# Altium schematic symbol library kmilo17pet-LT_OpAmp_LT1000.SchLib: 2280 symbols (part 61 of 79)
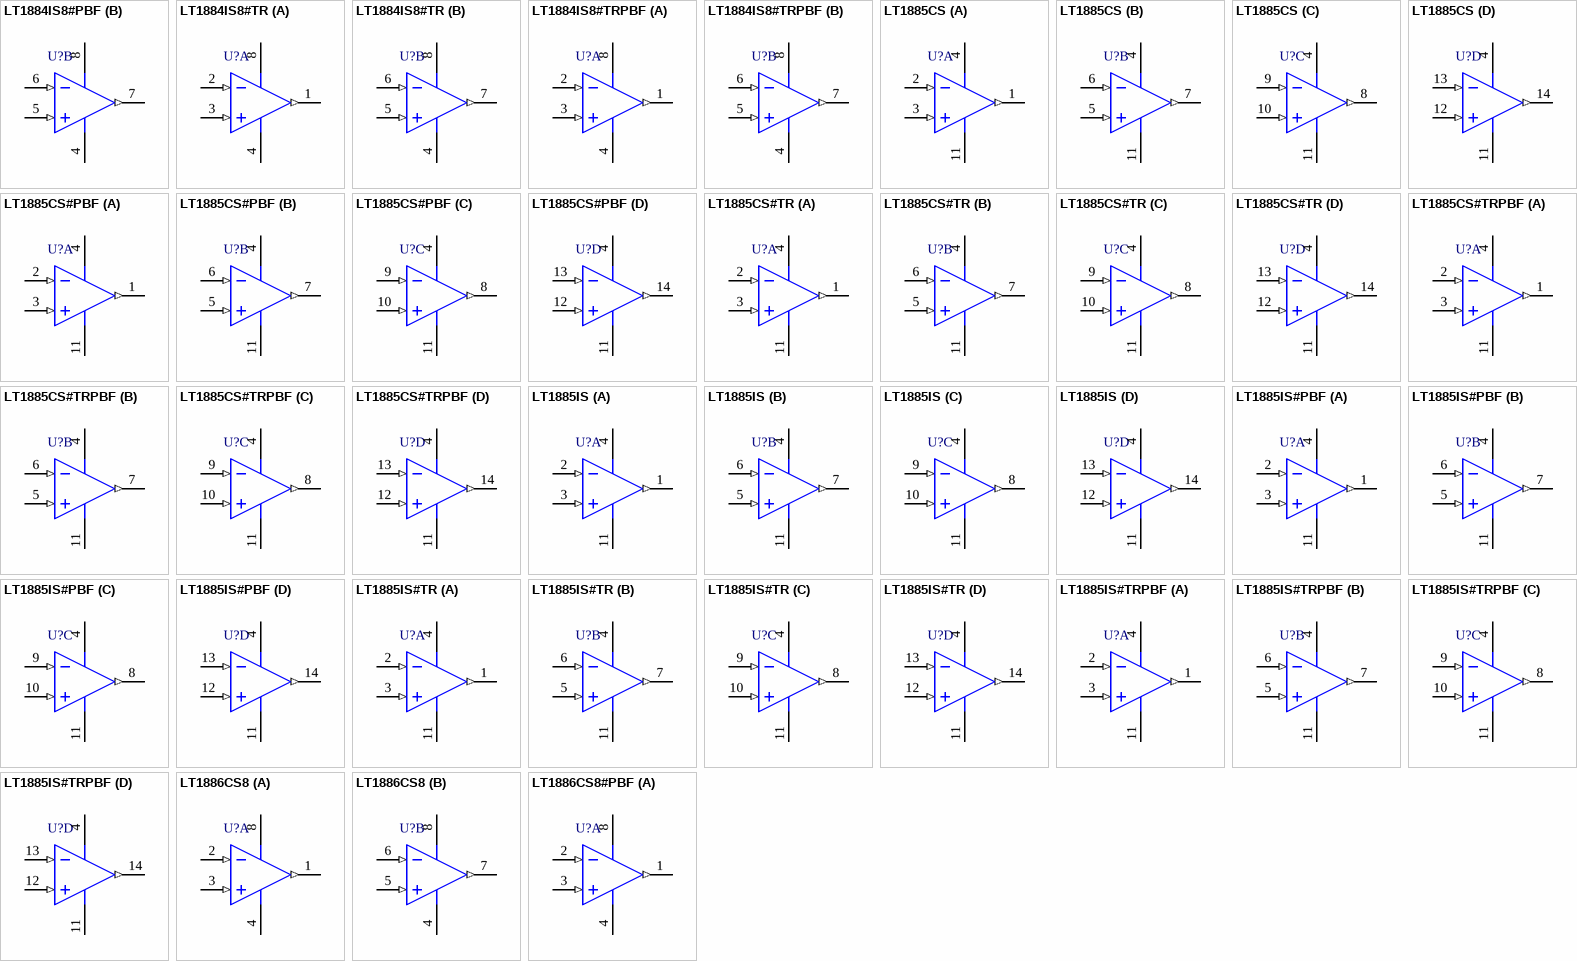
[diagram p165: symbols LT1884IS8#PBF to LT1886CS8#PBF]

## LT1884IS8#TR
designator U?
Dual Channel, Picoamp Input Current, Precision Operational Amplifier, RRO, 2 MHz Typical GBW, 0.9 V/us Typical SR, 2.4 to 40 V, 8-Pin SOIC (S8-8), Industrial, Reel; Linear Technology Part Number: LT1884; Manufacturer: Linear Technology; PartNumber: LT1884IS8#TR; Channels (#): 2; Is (mA) Typical: 0.65; SR (V/us) Typical: 0.9; Vos (mV) Guaranteed: 0.05; Vos (mV) Typical: 0.025; Vs Max (V): 40; Vs Min (V): 2.4; PackageVersion: Rev G; PackageReference: LT-S8-8; PackageDescription: 8-Pin Plastic Small Outline, Body 4.9 x 3.9 mm, Pitch 1.27 mm; Supplier 1: Digi-Key; Supplier Part Number 1: LT1884IS8#TR-ND; GBW (MHz) Typical: 2; Packing: Reel; Type: VFB; Mounting Technology: Surface Mount; ComponentLink1Description: Manufacturer URL; ComponentLink1URL: http://www.linear.com/; ComponentLink2Description: Datasheet; ComponentLink2URL: http://cds.linear.com/docs/en/datasheet/1884fs.pdf; ComponentLink3Description: Package Specification; ComponentLink3URL: http://cds.linear.com/docs/en/packaging/05081610_G_SO8.pdf
footprint LT-S8-8_N (SOIC, 8-Leads, Body 4.9x3.9mm, Pitch 1.27mm, IPC Medium Density)
footprint LT-S8-8_L (SOIC, 8-Leads, Body 4.9x3.9mm, Pitch 1.27mm, IPC High Density)
footprint LT-S8-8_M (SOIC, 8-Leads, Body 4.9x3.9mm, Pitch 1.27mm, IPC Low Density)
pins on every part: 4 V- (power), 8 V+ (power)
part A pins: 1 OUT A (out), 2 -IN A (in), 3 +IN A (in)
part B pins: 5 +IN B (in), 6 -IN B (in), 7 OUT B (out)

## LT1884IS8#TRPBF
designator U?
Dual Channel, Picoamp Input Current, Precision Operational Amplifier, RRO, 2 MHz Typical GBW, 0.9 V/us Typical SR, 2.4 to 40 V, 8-Pin SOIC (S8-8), Industrial, Pb-Free, Reel; Linear Technology Part Number: LT1884; Manufacturer: Linear Technology; PartNumber: LT1884IS8#TRPBF; Channels (#): 2; Is (mA) Typical: 0.65; SR (V/us) Typical: 0.9; Vos (mV) Guaranteed: 0.05; Vos (mV) Typical: 0.025; Vs Max (V): 40; Vs Min (V): 2.4; PackageVersion: Rev G; PackageReference: LT-S8-8; PackageDescription: 8-Pin Plastic Small Outline, Body 4.9 x 3.9 mm, Pitch 1.27 mm; Supplier 1: Digi-Key; Supplier Part Number 1: LT1884IS8#TRPBF-ND; GBW (MHz) Typical: 2; Packing: Reel; RoHS: Pb-Free; Type: VFB; Mounting Technology: Surface Mount; ComponentLink1Description: Manufacturer URL; ComponentLink1URL: http://www.linear.com/; ComponentLink2Description: Datasheet; ComponentLink2URL: http://cds.linear.com/docs/en/datasheet/1884fs.pdf; ComponentLink3Description: Package Specification; ComponentLink3URL: http://cds.linear.com/docs/en/packaging/05081610_G_SO8.pdf
footprint LT-S8-8_N (SOIC, 8-Leads, Body 4.9x3.9mm, Pitch 1.27mm, IPC Medium Density)
footprint LT-S8-8_L (SOIC, 8-Leads, Body 4.9x3.9mm, Pitch 1.27mm, IPC High Density)
footprint LT-S8-8_M (SOIC, 8-Leads, Body 4.9x3.9mm, Pitch 1.27mm, IPC Low Density)
pins on every part: 4 V- (power), 8 V+ (power)
part A pins: 1 OUT A (out), 2 -IN A (in), 3 +IN A (in)
part B pins: 5 +IN B (in), 6 -IN B (in), 7 OUT B (out)

## LT1885CS
designator U?
Quad Channel, Picoamp Input Current, Precision Operational Amplifier, 2 MHz Typical GBW, 0.9 V/us Typical SR, 2.4 to 40 V, 14-Pin SOIC (S-14), Commercial; Linear Technology Part Number: LT1885; Manufacturer: Linear Technology; PartNumber: LT1885CS; Channels (#): 4; GBW (MHz) Typical: 2; Is (mA) Typical: 0.65; SR (V/us) Typical: 0.9; Vos (mV) Guaranteed: 0.08; Vos (mV) Typical: 0.03; Vs Max (V): 40; Vs Min (V): 2.4; PackageVersion: Rev G; PackageReference: LT-S-14; PackageDescription: 14-Lead Plastic Small Outline, Body 8.65 x 3.90 mm, Pitch 1.27 mm; Supplier 1: Digi-Key; Supplier Part Number 1: LT1885CS-ND; Type: VFB; Mounting Technology: Surface Mount; ComponentLink1Description: Manufacturer URL; ComponentLink1URL: http://www.linear.com/; ComponentLink2Description: Datasheet; ComponentLink2URL: http://cds.linear.com/docs/en/datasheet/1884fs.pdf; ComponentLink3Description: Package Specification; ComponentLink3URL: http://cds.linear.com/docs/en/packaging/05081610_G_S14.pdf
footprint LT-S-14_N (SOIC, 14-Leads, Body 8.65x3.90mm, Pitch 1.27mm, IPC Medium Density)
footprint LT-S-14_L (SOIC, 14-Leads, Body 8.65x3.90mm, Pitch 1.27mm, IPC High Density)
footprint LT-S-14_M (SOIC, 14-Leads, Body 8.65x3.90mm, Pitch 1.27mm, IPC Low Density)
pins on every part: 4 V+ (power), 11 V- (power)
part A pins: 1 OUT A (out), 2 -IN A (in), 3 +IN A (in)
part B pins: 5 +IN B (in), 6 -IN B (in), 7 OUT B (out)
part C pins: 8 OUT C (out), 9 -IN C (in), 10 +IN C (in)
part D pins: 12 +IN D (in), 13 -IN D (in), 14 OUT D (out)

## LT1885CS#PBF
designator U?
Quad Channel, Picoamp Input Current, Precision Operational Amplifier, 2 MHz Typical GBW, 0.9 V/us Typical SR, 2.4 to 40 V, 14-Pin SOIC (S-14), Commercial, Pb-Free; Linear Technology Part Number: LT1885; Manufacturer: Linear Technology; PartNumber: LT1885CS#PBF; Channels (#): 4; GBW (MHz) Typical: 2; Is (mA) Typical: 0.65; SR (V/us) Typical: 0.9; Vos (mV) Guaranteed: 0.08; Vos (mV) Typical: 0.03; Vs Max (V): 40; Vs Min (V): 2.4; PackageVersion: Rev G; PackageReference: LT-S-14; PackageDescription: 14-Lead Plastic Small Outline, Body 8.65 x 3.90 mm, Pitch 1.27 mm; Supplier 1: Digi-Key; Supplier Part Number 1: LT1885CS#PBF-ND; Supplier 2: Farnell; Supplier Part Number 2: 1330727; Supplier 3: Newark; Supplier Part Number 3: 57M7124; RoHS: Pb-Free; Type: VFB; Mounting Technology: Surface Mount; ComponentLink1Description: Manufacturer URL; ComponentLink1URL: http://www.linear.com/; ComponentLink2Description: Datasheet; ComponentLink2URL: http://cds.linear.com/docs/en/datasheet/1884fs.pdf; ComponentLink3Description: Package Specification; ComponentLink3URL: http://cds.linear.com/docs/en/packaging/05081610_G_S14.pdf
footprint LT-S-14_N (SOIC, 14-Leads, Body 8.65x3.90mm, Pitch 1.27mm, IPC Medium Density)
footprint LT-S-14_L (SOIC, 14-Leads, Body 8.65x3.90mm, Pitch 1.27mm, IPC High Density)
footprint LT-S-14_M (SOIC, 14-Leads, Body 8.65x3.90mm, Pitch 1.27mm, IPC Low Density)
pins on every part: 4 V+ (power), 11 V- (power)
part A pins: 1 OUT A (out), 2 -IN A (in), 3 +IN A (in)
part B pins: 5 +IN B (in), 6 -IN B (in), 7 OUT B (out)
part C pins: 8 OUT C (out), 9 -IN C (in), 10 +IN C (in)
part D pins: 12 +IN D (in), 13 -IN D (in), 14 OUT D (out)

## LT1885CS#TR
designator U?
Quad Channel, Picoamp Input Current, Precision Operational Amplifier, 2 MHz Typical GBW, 0.9 V/us Typical SR, 2.4 to 40 V, 14-Pin SOIC (S-14), Commercial, Reel; Linear Technology Part Number: LT1885; Manufacturer: Linear Technology; PartNumber: LT1885CS#TR; Channels (#): 4; GBW (MHz) Typical: 2; Is (mA) Typical: 0.65; SR (V/us) Typical: 0.9; Vos (mV) Guaranteed: 0.08; Vos (mV) Typical: 0.03; Vs Max (V): 40; Vs Min (V): 2.4; PackageVersion: Rev G; PackageReference: LT-S-14; PackageDescription: 14-Lead Plastic Small Outline, Body 8.65 x 3.90 mm, Pitch 1.27 mm; Supplier 1: Digi-Key; Supplier Part Number 1: LT1885CS#TR-ND; Packing: Reel; Type: VFB; Mounting Technology: Surface Mount; ComponentLink1Description: Manufacturer URL; ComponentLink1URL: http://www.linear.com/; ComponentLink2Description: Datasheet; ComponentLink2URL: http://cds.linear.com/docs/en/datasheet/1884fs.pdf; ComponentLink3Description: Package Specification; ComponentLink3URL: http://cds.linear.com/docs/en/packaging/05081610_G_S14.pdf
footprint LT-S-14_N (SOIC, 14-Leads, Body 8.65x3.90mm, Pitch 1.27mm, IPC Medium Density)
footprint LT-S-14_L (SOIC, 14-Leads, Body 8.65x3.90mm, Pitch 1.27mm, IPC High Density)
footprint LT-S-14_M (SOIC, 14-Leads, Body 8.65x3.90mm, Pitch 1.27mm, IPC Low Density)
pins on every part: 4 V+ (power), 11 V- (power)
part A pins: 1 OUT A (out), 2 -IN A (in), 3 +IN A (in)
part B pins: 5 +IN B (in), 6 -IN B (in), 7 OUT B (out)
part C pins: 8 OUT C (out), 9 -IN C (in), 10 +IN C (in)
part D pins: 12 +IN D (in), 13 -IN D (in), 14 OUT D (out)

## LT1885CS#TRPBF
designator U?
Quad Channel, Picoamp Input Current, Precision Operational Amplifier, 2 MHz Typical GBW, 0.9 V/us Typical SR, 2.4 to 40 V, 14-Pin SOIC (S-14), Commercial, Pb-Free, Reel; Linear Technology Part Number: LT1885; Manufacturer: Linear Technology; PartNumber: LT1885CS#TRPBF; Channels (#): 4; GBW (MHz) Typical: 2; Is (mA) Typical: 0.65; SR (V/us) Typical: 0.9; Vos (mV) Guaranteed: 0.08; Vos (mV) Typical: 0.03; Vs Max (V): 40; Vs Min (V): 2.4; PackageVersion: Rev G; PackageReference: LT-S-14; PackageDescription: 14-Lead Plastic Small Outline, Body 8.65 x 3.90 mm, Pitch 1.27 mm; Supplier 1: Digi-Key; Supplier Part Number 1: LT1885CS#TRPBF-ND; Supplier 2: Newark; Supplier Part Number 2: 57M7126; Packing: Reel; RoHS: Pb-Free; Type: VFB; Mounting Technology: Surface Mount; ComponentLink1Description: Manufacturer URL; ComponentLink1URL: http://www.linear.com/; ComponentLink2Description: Datasheet; ComponentLink2URL: http://cds.linear.com/docs/en/datasheet/1884fs.pdf; ComponentLink3Description: Package Specification; ComponentLink3URL: http://cds.linear.com/docs/en/packaging/05081610_G_S14.pdf
footprint LT-S-14_N (SOIC, 14-Leads, Body 8.65x3.90mm, Pitch 1.27mm, IPC Medium Density)
footprint LT-S-14_L (SOIC, 14-Leads, Body 8.65x3.90mm, Pitch 1.27mm, IPC High Density)
footprint LT-S-14_M (SOIC, 14-Leads, Body 8.65x3.90mm, Pitch 1.27mm, IPC Low Density)
pins on every part: 4 V+ (power), 11 V- (power)
part A pins: 1 OUT A (out), 2 -IN A (in), 3 +IN A (in)
part B pins: 5 +IN B (in), 6 -IN B (in), 7 OUT B (out)
part C pins: 8 OUT C (out), 9 -IN C (in), 10 +IN C (in)
part D pins: 12 +IN D (in), 13 -IN D (in), 14 OUT D (out)

## LT1885IS
designator U?
Quad Channel, Picoamp Input Current, Precision Operational Amplifier, 2 MHz Typical GBW, 0.9 V/us Typical SR, 2.4 to 40 V, 14-Pin SOIC (S-14), Industrial; Linear Technology Part Number: LT1885; Manufacturer: Linear Technology; PartNumber: LT1885IS; Channels (#): 4; GBW (MHz) Typical: 2; Is (mA) Typical: 0.65; SR (V/us) Typical: 0.9; Vos (mV) Guaranteed: 0.08; Vos (mV) Typical: 0.03; Vs Max (V): 40; Vs Min (V): 2.4; PackageVersion: Rev G; PackageReference: LT-S-14; PackageDescription: 14-Lead Plastic Small Outline, Body 8.65 x 3.90 mm, Pitch 1.27 mm; Supplier 1: Digi-Key; Supplier Part Number 1: LT1885IS-ND; Supplier 2: Newark; Supplier Part Number 2: 57M7127; Type: VFB; Mounting Technology: Surface Mount; ComponentLink1Description: Manufacturer URL; ComponentLink1URL: http://www.linear.com/; ComponentLink2Description: Datasheet; ComponentLink2URL: http://cds.linear.com/docs/en/datasheet/1884fs.pdf; ComponentLink3Description: Package Specification; ComponentLink3URL: http://cds.linear.com/docs/en/packaging/05081610_G_S14.pdf
footprint LT-S-14_N (SOIC, 14-Leads, Body 8.65x3.90mm, Pitch 1.27mm, IPC Medium Density)
footprint LT-S-14_L (SOIC, 14-Leads, Body 8.65x3.90mm, Pitch 1.27mm, IPC High Density)
footprint LT-S-14_M (SOIC, 14-Leads, Body 8.65x3.90mm, Pitch 1.27mm, IPC Low Density)
pins on every part: 4 V+ (power), 11 V- (power)
part A pins: 1 OUT A (out), 2 -IN A (in), 3 +IN A (in)
part B pins: 5 +IN B (in), 6 -IN B (in), 7 OUT B (out)
part C pins: 8 OUT C (out), 9 -IN C (in), 10 +IN C (in)
part D pins: 12 +IN D (in), 13 -IN D (in), 14 OUT D (out)

## LT1885IS#PBF
designator U?
Quad Channel, Picoamp Input Current, Precision Operational Amplifier, 2 MHz Typical GBW, 0.9 V/us Typical SR, 2.4 to 40 V, 14-Pin SOIC (S-14), Industrial, Pb-Free; Linear Technology Part Number: LT1885; Manufacturer: Linear Technology; PartNumber: LT1885IS#PBF; Channels (#): 4; GBW (MHz) Typical: 2; Is (mA) Typical: 0.65; SR (V/us) Typical: 0.9; Vos (mV) Guaranteed: 0.08; Vos (mV) Typical: 0.03; Vs Max (V): 40; Vs Min (V): 2.4; PackageVersion: Rev G; PackageReference: LT-S-14; PackageDescription: 14-Lead Plastic Small Outline, Body 8.65 x 3.90 mm, Pitch 1.27 mm; Supplier 1: Digi-Key; Supplier Part Number 1: LT1885IS#PBF-ND; Supplier 2: Farnell; Supplier Part Number 2: 2254818; Supplier 3: Newark; Supplier Part Number 3: 57M7128; RoHS: Pb-Free; Type: VFB; Mounting Technology: Surface Mount; ComponentLink1Description: Manufacturer URL; ComponentLink1URL: http://www.linear.com/; ComponentLink2Description: Datasheet; ComponentLink2URL: http://cds.linear.com/docs/en/datasheet/1884fs.pdf; ComponentLink3Description: Package Specification; ComponentLink3URL: http://cds.linear.com/docs/en/packaging/05081610_G_S14.pdf
footprint LT-S-14_N (SOIC, 14-Leads, Body 8.65x3.90mm, Pitch 1.27mm, IPC Medium Density)
footprint LT-S-14_L (SOIC, 14-Leads, Body 8.65x3.90mm, Pitch 1.27mm, IPC High Density)
footprint LT-S-14_M (SOIC, 14-Leads, Body 8.65x3.90mm, Pitch 1.27mm, IPC Low Density)
pins on every part: 4 V+ (power), 11 V- (power)
part A pins: 1 OUT A (out), 2 -IN A (in), 3 +IN A (in)
part B pins: 5 +IN B (in), 6 -IN B (in), 7 OUT B (out)
part C pins: 8 OUT C (out), 9 -IN C (in), 10 +IN C (in)
part D pins: 12 +IN D (in), 13 -IN D (in), 14 OUT D (out)

## LT1885IS#TR
designator U?
Quad Channel, Picoamp Input Current, Precision Operational Amplifier, 2 MHz Typical GBW, 0.9 V/us Typical SR, 2.4 to 40 V, 14-Pin SOIC (S-14), Industrial, Reel; Linear Technology Part Number: LT1885; Manufacturer: Linear Technology; PartNumber: LT1885IS#TR; Channels (#): 4; GBW (MHz) Typical: 2; Is (mA) Typical: 0.65; SR (V/us) Typical: 0.9; Vos (mV) Guaranteed: 0.08; Vos (mV) Typical: 0.03; Vs Max (V): 40; Vs Min (V): 2.4; PackageVersion: Rev G; PackageReference: LT-S-14; PackageDescription: 14-Lead Plastic Small Outline, Body 8.65 x 3.90 mm, Pitch 1.27 mm; Supplier 1: Digi-Key; Supplier Part Number 1: LT1885IS#TR-ND; Packing: Reel; Type: VFB; Mounting Technology: Surface Mount; ComponentLink1Description: Manufacturer URL; ComponentLink1URL: http://www.linear.com/; ComponentLink2Description: Datasheet; ComponentLink2URL: http://cds.linear.com/docs/en/datasheet/1884fs.pdf; ComponentLink3Description: Package Specification; ComponentLink3URL: http://cds.linear.com/docs/en/packaging/05081610_G_S14.pdf
footprint LT-S-14_N (SOIC, 14-Leads, Body 8.65x3.90mm, Pitch 1.27mm, IPC Medium Density)
footprint LT-S-14_L (SOIC, 14-Leads, Body 8.65x3.90mm, Pitch 1.27mm, IPC High Density)
footprint LT-S-14_M (SOIC, 14-Leads, Body 8.65x3.90mm, Pitch 1.27mm, IPC Low Density)
pins on every part: 4 V+ (power), 11 V- (power)
part A pins: 1 OUT A (out), 2 -IN A (in), 3 +IN A (in)
part B pins: 5 +IN B (in), 6 -IN B (in), 7 OUT B (out)
part C pins: 8 OUT C (out), 9 -IN C (in), 10 +IN C (in)
part D pins: 12 +IN D (in), 13 -IN D (in), 14 OUT D (out)

## LT1885IS#TRPBF
designator U?
Quad Channel, Picoamp Input Current, Precision Operational Amplifier, 2 MHz Typical GBW, 0.9 V/us Typical SR, 2.4 to 40 V, 14-Pin SOIC (S-14), Industrial, Pb-Free, Reel; Linear Technology Part Number: LT1885; Manufacturer: Linear Technology; PartNumber: LT1885IS#TRPBF; Channels (#): 4; GBW (MHz) Typical: 2; Is (mA) Typical: 0.65; SR (V/us) Typical: 0.9; Vos (mV) Guaranteed: 0.08; Vos (mV) Typical: 0.03; Vs Max (V): 40; Vs Min (V): 2.4; PackageVersion: Rev G; PackageReference: LT-S-14; PackageDescription: 14-Lead Plastic Small Outline, Body 8.65 x 3.90 mm, Pitch 1.27 mm; Supplier 1: Digi-Key; Supplier Part Number 1: LT1885IS#TRPBF-ND; Supplier 2: Newark; Supplier Part Number 2: 57M7130; Packing: Reel; RoHS: Pb-Free; Type: VFB; Mounting Technology: Surface Mount; ComponentLink1Description: Manufacturer URL; ComponentLink1URL: http://www.linear.com/; ComponentLink2Description: Datasheet; ComponentLink2URL: http://cds.linear.com/docs/en/datasheet/1884fs.pdf; ComponentLink3Description: Package Specification; ComponentLink3URL: http://cds.linear.com/docs/en/packaging/05081610_G_S14.pdf
footprint LT-S-14_N (SOIC, 14-Leads, Body 8.65x3.90mm, Pitch 1.27mm, IPC Medium Density)
footprint LT-S-14_L (SOIC, 14-Leads, Body 8.65x3.90mm, Pitch 1.27mm, IPC High Density)
footprint LT-S-14_M (SOIC, 14-Leads, Body 8.65x3.90mm, Pitch 1.27mm, IPC Low Density)
pins on every part: 4 V+ (power), 11 V- (power)
part A pins: 1 OUT A (out), 2 -IN A (in), 3 +IN A (in)
part B pins: 5 +IN B (in), 6 -IN B (in), 7 OUT B (out)
part C pins: 8 OUT C (out), 9 -IN C (in), 10 +IN C (in)
part D pins: 12 +IN D (in), 13 -IN D (in), 14 OUT D (out)

## LT1886CS8
designator U?
Dual Channel, High Output Current, Operational Amplifier, 700 MHz Typical GBW, 200 V/us Typical SR, 4 to 13.2 V, 8-Pin SOIC (S8-8), Commercial; Linear Technology Part Number: LT1886; Manufacturer: Linear Technology; PartNumber: LT1886CS8; Channels (#): 2; GBW (MHz) Typical: 700; Is (mA) Typical: 7; SR (V/us) Typical: 200; Vos (mV) Guaranteed: 4; Vos (mV) Typical: 1; Vs Max (V): 13.2; DatasheetVersion: Rev. A; PackageVersion: Rev G; PackageReference: LT-S8-8; PackageDescription: 8-Pin Plastic Small Outline, Body 4.9 x 3.9 mm, Pitch 1.27 mm; Supplier 1: Digi-Key; Supplier Part Number 1: LT1886CS8-ND; Type: VFB; Vs Min (V): 4; Mounting Technology: Surface Mount; ComponentLink1Description: Manufacturer URL; ComponentLink1URL: http://www.linear.com/; ComponentLink2Description: Datasheet; ComponentLink2URL: http://cds.linear.com/docs/en/datasheet/1886fa.pdf; ComponentLink3Description: Package Specification; ComponentLink3URL: http://cds.linear.com/docs/en/packaging/05081610_G_SO8.pdf
footprint LT-S8-8_N (SOIC, 8-Leads, Body 4.9x3.9mm, Pitch 1.27mm, IPC Medium Density)
footprint LT-S8-8_L (SOIC, 8-Leads, Body 4.9x3.9mm, Pitch 1.27mm, IPC High Density)
footprint LT-S8-8_M (SOIC, 8-Leads, Body 4.9x3.9mm, Pitch 1.27mm, IPC Low Density)
pins on every part: 4 V- (power), 8 V+ (power)
part A pins: 1 OUT A (out), 2 -IN A (in), 3 +IN A (in)
part B pins: 5 +IN B (in), 6 -IN B (in), 7 OUT B (out)

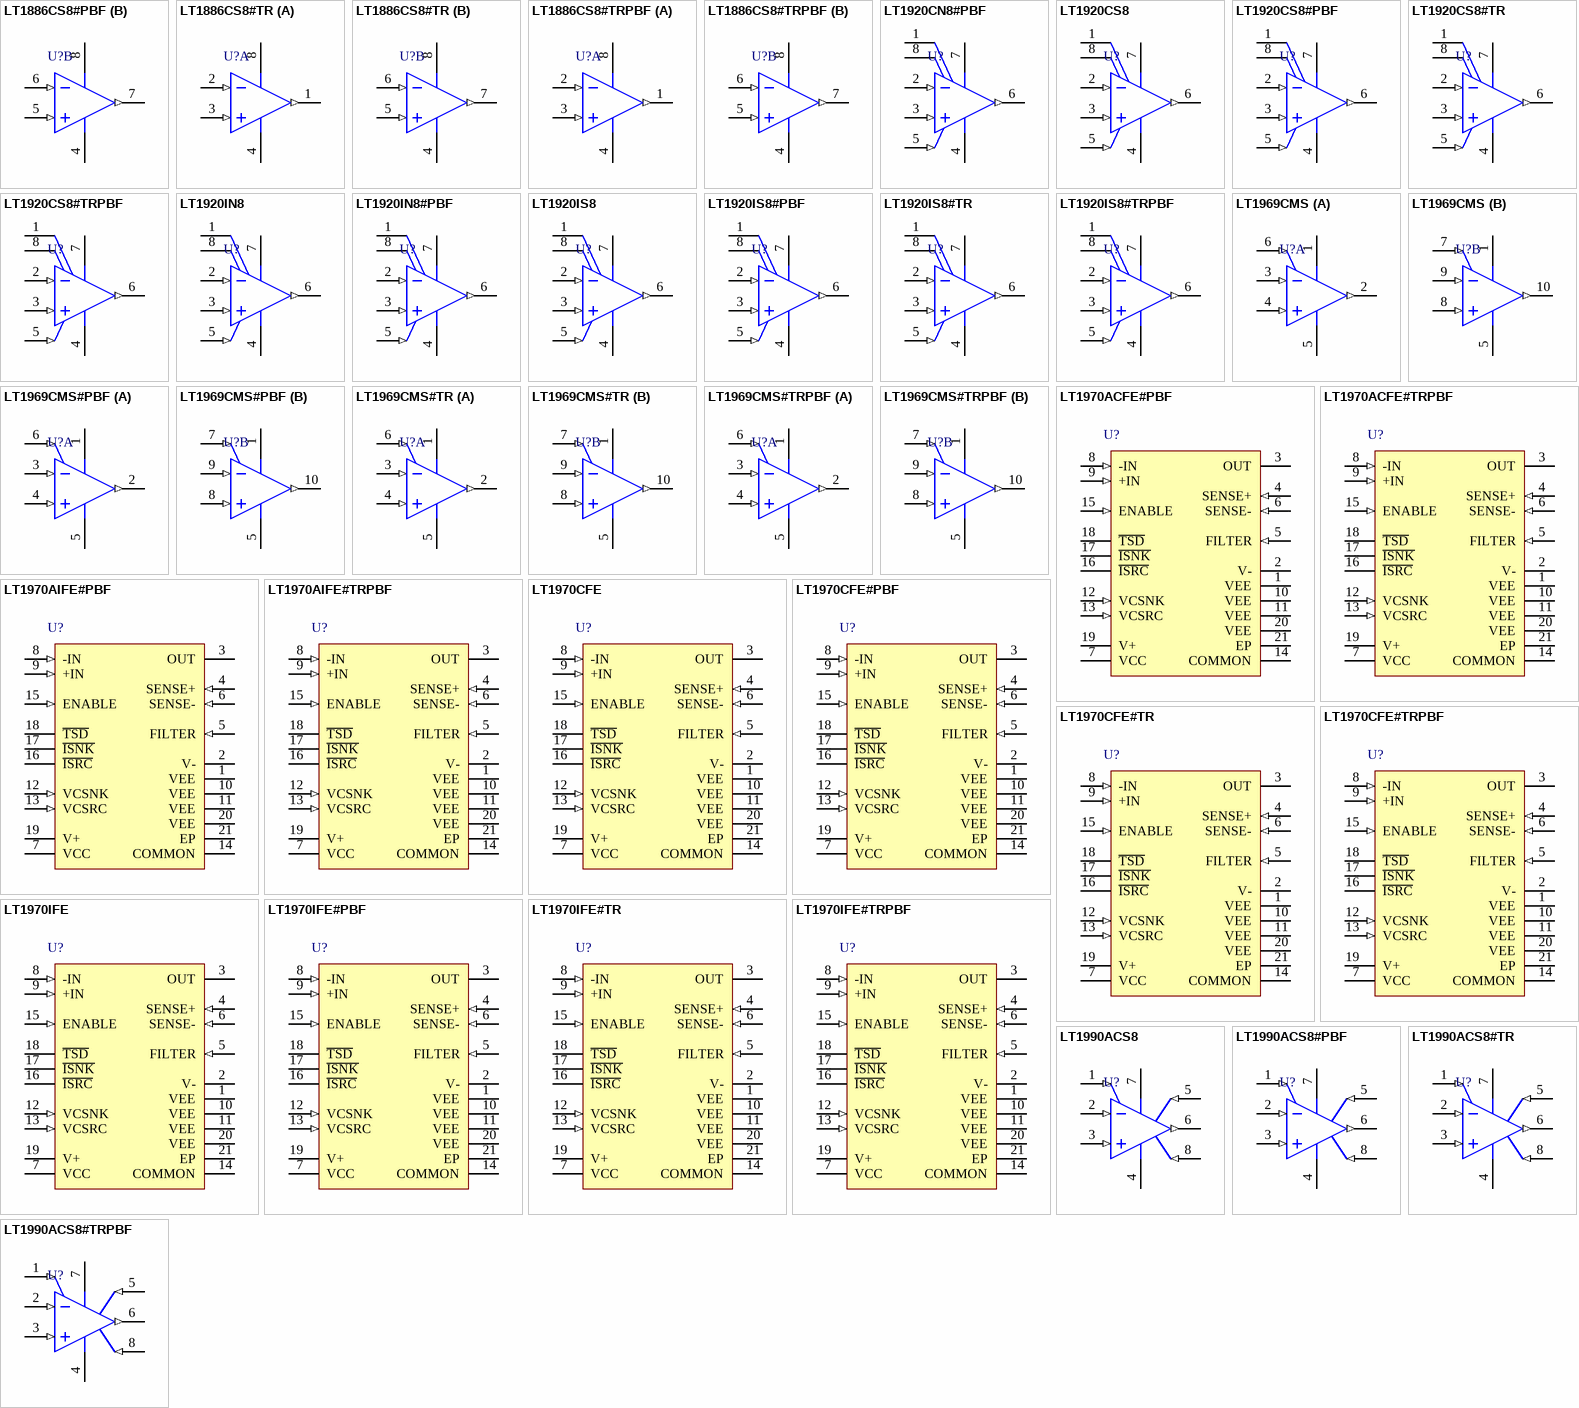
[diagram p96: symbols LT1886CS8#PBF to LT1990ACS8#TRPBF]

## LT1886CS8#PBF
designator U?
Dual Channel, High Output Current, Operational Amplifier, 700 MHz Typical GBW, 200 V/us Typical SR, 4 to 13.2 V, 8-Pin SOIC (S8-8), Commercial, Pb-Free; Linear Technology Part Number: LT1886; Manufacturer: Linear Technology; PartNumber: LT1886CS8#PBF; Channels (#): 2; GBW (MHz) Typical: 700; Is (mA) Typical: 7; SR (V/us) Typical: 200; Vos (mV) Guaranteed: 4; Vos (mV) Typical: 1; Vs Max (V): 13.2; DatasheetVersion: Rev. A; PackageVersion: Rev G; PackageReference: LT-S8-8; PackageDescription: 8-Pin Plastic Small Outline, Body 4.9 x 3.9 mm, Pitch 1.27 mm; Supplier 1: Digi-Key; Supplier Part Number 1: LT1886CS8#PBF-ND; Supplier 2: Farnell; Supplier Part Number 2: 1330728; Supplier 3: Newark; Supplier Part Number 3: 57M7132; RoHS: Pb-Free; Type: VFB; Vs Min (V): 4; Mounting Technology: Surface Mount; ComponentLink1Description: Manufacturer URL; ComponentLink1URL: http://www.linear.com/; ComponentLink2Description: Datasheet; ComponentLink2URL: http://cds.linear.com/docs/en/datasheet/1886fa.pdf; ComponentLink3Description: Package Specification; ComponentLink3URL: http://cds.linear.com/docs/en/packaging/05081610_G_SO8.pdf
footprint LT-S8-8_N (SOIC, 8-Leads, Body 4.9x3.9mm, Pitch 1.27mm, IPC Medium Density)
footprint LT-S8-8_L (SOIC, 8-Leads, Body 4.9x3.9mm, Pitch 1.27mm, IPC High Density)
footprint LT-S8-8_M (SOIC, 8-Leads, Body 4.9x3.9mm, Pitch 1.27mm, IPC Low Density)
pins on every part: 4 V- (power), 8 V+ (power)
part A pins: 1 OUT A (out), 2 -IN A (in), 3 +IN A (in)
part B pins: 5 +IN B (in), 6 -IN B (in), 7 OUT B (out)

## LT1886CS8#TR
designator U?
Dual Channel, High Output Current, Operational Amplifier, 700 MHz Typical GBW, 200 V/us Typical SR, 4 to 13.2 V, 8-Pin SOIC (S8-8), Commercial, Reel; Linear Technology Part Number: LT1886; Manufacturer: Linear Technology; PartNumber: LT1886CS8#TR; Channels (#): 2; GBW (MHz) Typical: 700; Is (mA) Typical: 7; SR (V/us) Typical: 200; Vos (mV) Guaranteed: 4; Vos (mV) Typical: 1; Vs Max (V): 13.2; DatasheetVersion: Rev. A; PackageVersion: Rev G; PackageReference: LT-S8-8; PackageDescription: 8-Pin Plastic Small Outline, Body 4.9 x 3.9 mm, Pitch 1.27 mm; Supplier 1: Digi-Key; Supplier Part Number 1: LT1886CS8#TR-ND; Packing: Reel; Type: VFB; Vs Min (V): 4; Mounting Technology: Surface Mount; ComponentLink1Description: Manufacturer URL; ComponentLink1URL: http://www.linear.com/; ComponentLink2Description: Datasheet; ComponentLink2URL: http://cds.linear.com/docs/en/datasheet/1886fa.pdf; ComponentLink3Description: Package Specification; ComponentLink3URL: http://cds.linear.com/docs/en/packaging/05081610_G_SO8.pdf
footprint LT-S8-8_N (SOIC, 8-Leads, Body 4.9x3.9mm, Pitch 1.27mm, IPC Medium Density)
footprint LT-S8-8_L (SOIC, 8-Leads, Body 4.9x3.9mm, Pitch 1.27mm, IPC High Density)
footprint LT-S8-8_M (SOIC, 8-Leads, Body 4.9x3.9mm, Pitch 1.27mm, IPC Low Density)
pins on every part: 4 V- (power), 8 V+ (power)
part A pins: 1 OUT A (out), 2 -IN A (in), 3 +IN A (in)
part B pins: 5 +IN B (in), 6 -IN B (in), 7 OUT B (out)

## LT1886CS8#TRPBF
designator U?
Dual Channel, High Output Current, Operational Amplifier, 700 MHz Typical GBW, 200 V/us Typical SR, 4 to 13.2 V, 8-Pin SOIC (S8-8), Commercial, Pb-Free, Reel; Linear Technology Part Number: LT1886; Manufacturer: Linear Technology; PartNumber: LT1886CS8#TRPBF; Channels (#): 2; GBW (MHz) Typical: 700; Is (mA) Typical: 7; SR (V/us) Typical: 200; Vos (mV) Guaranteed: 4; Vos (mV) Typical: 1; Vs Max (V): 13.2; DatasheetVersion: Rev. A; PackageVersion: Rev G; PackageReference: LT-S8-8; PackageDescription: 8-Pin Plastic Small Outline, Body 4.9 x 3.9 mm, Pitch 1.27 mm; Supplier 1: Digi-Key; Supplier Part Number 1: LT1886CS8#TRPBF-ND; Packing: Reel; RoHS: Pb-Free; Type: VFB; Vs Min (V): 4; Mounting Technology: Surface Mount; ComponentLink1Description: Manufacturer URL; ComponentLink1URL: http://www.linear.com/; ComponentLink2Description: Datasheet; ComponentLink2URL: http://cds.linear.com/docs/en/datasheet/1886fa.pdf; ComponentLink3Description: Package Specification; ComponentLink3URL: http://cds.linear.com/docs/en/packaging/05081610_G_SO8.pdf
footprint LT-S8-8_N (SOIC, 8-Leads, Body 4.9x3.9mm, Pitch 1.27mm, IPC Medium Density)
footprint LT-S8-8_L (SOIC, 8-Leads, Body 4.9x3.9mm, Pitch 1.27mm, IPC High Density)
footprint LT-S8-8_M (SOIC, 8-Leads, Body 4.9x3.9mm, Pitch 1.27mm, IPC Low Density)
pins on every part: 4 V- (power), 8 V+ (power)
part A pins: 1 OUT A (out), 2 -IN A (in), 3 +IN A (in)
part B pins: 5 +IN B (in), 6 -IN B (in), 7 OUT B (out)

## LT1920CN8#PBF
designator U?
Single Channel, Resistor Gain Programmable, Precision Instrumentation Operational Amplifier, 0.8 MHz Typical GBW, 1.2 V/us Typical SR, 4.6 to 40 V, 8-Pin DIP (N8-8), Commercial, Pb-Free; Linear Technology Part Number: LT1920; Manufacturer: Linear Technology; PartNumber: LT1920CN8#PBF; Channels (#): 1; GBW (MHz) Typical: 0.8; Is (mA) Typical: 0.9; SR (V/us) Typical: 1.2; Vos (mV) Guaranteed: 0.125; Vos (mV) Typical: 0.03; Vs Max (V): 40; Vs Min (V): 4.6; PackageVersion: Rev I; PackageReference: LT-N8-8; PackageDescription: 8-Lead PDIP, Body 10.16 x 6.48 mm, Pitch 2.54 mm; Supplier 1: Digi-Key; Supplier Part Number 1: LT1920CN8#PBF-ND; Supplier 2: Newark; Supplier Part Number 2: 57M7140; RoHS: Pb-Free; Type: IA; Mounting Technology: Through Hole; ComponentLink1Description: Manufacturer URL; ComponentLink1URL: http://www.linear.com/; ComponentLink2Description: Datasheet; ComponentLink2URL: http://cds.linear.com/docs/en/datasheet/1920f.pdf; ComponentLink3Description: Package Specification; ComponentLink3URL: http://cds.linear.com/docs/en/packaging/05081510_I_N8.pdf
footprint LT-N8-8 (DIP, 8-Leads, Body 10.16x6.48mm, Pitch 2.54mm)
pins: 1 RG, 2 -IN (in), 3 +IN (in), 4 -VS (power), 5 REF (in), 6 OUTPUT (out), 7 +VS (power), 8 RG

## LT1920CS8
designator U?
Single Channel, Resistor Gain Programmable, Precision Instrumentation Operational Amplifier, 0.8 MHz Typical GBW, 1.2 V/us Typical SR, 4.6 to 40 V, 8-Pin SOIC (S8-8), Commercial; Linear Technology Part Number: LT1920; Manufacturer: Linear Technology; PartNumber: LT1920CS8; Channels (#): 1; GBW (MHz) Typical: 0.8; Is (mA) Typical: 0.9; SR (V/us) Typical: 1.2; Vos (mV) Guaranteed: 0.125; Vos (mV) Typical: 0.03; Vs Max (V): 40; Vs Min (V): 4.6; PackageVersion: Rev G; PackageReference: LT-S8-8; PackageDescription: 8-Pin Plastic Small Outline, Body 4.9 x 3.9 mm, Pitch 1.27 mm; Supplier 1: Digi-Key; Supplier Part Number 1: LT1920CS8-ND; Type: IA; Mounting Technology: Surface Mount; ComponentLink1Description: Manufacturer URL; ComponentLink1URL: http://www.linear.com/; ComponentLink2Description: Datasheet; ComponentLink2URL: http://cds.linear.com/docs/en/datasheet/1920f.pdf; ComponentLink3Description: Package Specification; ComponentLink3URL: http://cds.linear.com/docs/en/packaging/05081610_G_SO8.pdf
footprint LT-S8-8_N (SOIC, 8-Leads, Body 4.9x3.9mm, Pitch 1.27mm, IPC Medium Density)
footprint LT-S8-8_L (SOIC, 8-Leads, Body 4.9x3.9mm, Pitch 1.27mm, IPC High Density)
footprint LT-S8-8_M (SOIC, 8-Leads, Body 4.9x3.9mm, Pitch 1.27mm, IPC Low Density)
pins: 1 RG, 2 -IN (in), 3 +IN (in), 4 -VS (power), 5 REF (in), 6 OUTPUT (out), 7 +VS (power), 8 RG

## LT1920CS8#PBF
designator U?
Single Channel, Resistor Gain Programmable, Precision Instrumentation Operational Amplifier, 0.8 MHz Typical GBW, 1.2 V/us Typical SR, 4.6 to 40 V, 8-Pin SOIC (S8-8), Commercial, Pb-Free; Linear Technology Part Number: LT1920; Manufacturer: Linear Technology; PartNumber: LT1920CS8#PBF; Channels (#): 1; GBW (MHz) Typical: 0.8; Is (mA) Typical: 0.9; SR (V/us) Typical: 1.2; Vos (mV) Guaranteed: 0.125; Vos (mV) Typical: 0.03; Vs Max (V): 40; Vs Min (V): 4.6; PackageVersion: Rev G; PackageReference: LT-S8-8; PackageDescription: 8-Pin Plastic Small Outline, Body 4.9 x 3.9 mm, Pitch 1.27 mm; Supplier 1: Digi-Key; Supplier Part Number 1: LT1920CS8#PBF-ND; Supplier 2: Farnell; Supplier Part Number 2: 1663517; Supplier 3: Newark; Supplier Part Number 3: 57M7142; RoHS: Pb-Free; Type: IA; Mounting Technology: Surface Mount; ComponentLink1Description: Manufacturer URL; ComponentLink1URL: http://www.linear.com/; ComponentLink2Description: Datasheet; ComponentLink2URL: http://cds.linear.com/docs/en/datasheet/1920f.pdf; ComponentLink3Description: Package Specification; ComponentLink3URL: http://cds.linear.com/docs/en/packaging/05081610_G_SO8.pdf
footprint LT-S8-8_N (SOIC, 8-Leads, Body 4.9x3.9mm, Pitch 1.27mm, IPC Medium Density)
footprint LT-S8-8_L (SOIC, 8-Leads, Body 4.9x3.9mm, Pitch 1.27mm, IPC High Density)
footprint LT-S8-8_M (SOIC, 8-Leads, Body 4.9x3.9mm, Pitch 1.27mm, IPC Low Density)
pins: 1 RG, 2 -IN (in), 3 +IN (in), 4 -VS (power), 5 REF (in), 6 OUTPUT (out), 7 +VS (power), 8 RG

## LT1920CS8#TR
designator U?
Single Channel, Resistor Gain Programmable, Precision Instrumentation Operational Amplifier, 0.8 MHz Typical GBW, 1.2 V/us Typical SR, 4.6 to 40 V, 8-Pin SOIC (S8-8), Commercial, Reel; Linear Technology Part Number: LT1920; Manufacturer: Linear Technology; PartNumber: LT1920CS8#TR; Channels (#): 1; GBW (MHz) Typical: 0.8; Is (mA) Typical: 0.9; SR (V/us) Typical: 1.2; Vos (mV) Guaranteed: 0.125; Vos (mV) Typical: 0.03; Vs Max (V): 40; Vs Min (V): 4.6; PackageVersion: Rev G; PackageReference: LT-S8-8; PackageDescription: 8-Pin Plastic Small Outline, Body 4.9 x 3.9 mm, Pitch 1.27 mm; Supplier 1: Digi-Key; Supplier Part Number 1: LT1920CS8#TR-ND; Packing: Reel; Type: IA; Mounting Technology: Surface Mount; ComponentLink1Description: Manufacturer URL; ComponentLink1URL: http://www.linear.com/; ComponentLink2Description: Datasheet; ComponentLink2URL: http://cds.linear.com/docs/en/datasheet/1920f.pdf; ComponentLink3Description: Package Specification; ComponentLink3URL: http://cds.linear.com/docs/en/packaging/05081610_G_SO8.pdf
footprint LT-S8-8_N (SOIC, 8-Leads, Body 4.9x3.9mm, Pitch 1.27mm, IPC Medium Density)
footprint LT-S8-8_L (SOIC, 8-Leads, Body 4.9x3.9mm, Pitch 1.27mm, IPC High Density)
footprint LT-S8-8_M (SOIC, 8-Leads, Body 4.9x3.9mm, Pitch 1.27mm, IPC Low Density)
pins: 1 RG, 2 -IN (in), 3 +IN (in), 4 -VS (power), 5 REF (in), 6 OUTPUT (out), 7 +VS (power), 8 RG

## LT1920CS8#TRPBF
designator U?
Single Channel, Resistor Gain Programmable, Precision Instrumentation Operational Amplifier, 0.8 MHz Typical GBW, 1.2 V/us Typical SR, 4.6 to 40 V, 8-Pin SOIC (S8-8), Commercial, Pb-Free, Reel; Linear Technology Part Number: LT1920; Manufacturer: Linear Technology; PartNumber: LT1920CS8#TRPBF; Channels (#): 1; GBW (MHz) Typical: 0.8; Is (mA) Typical: 0.9; SR (V/us) Typical: 1.2; Vos (mV) Guaranteed: 0.125; Vos (mV) Typical: 0.03; Vs Max (V): 40; Vs Min (V): 4.6; PackageVersion: Rev G; PackageReference: LT-S8-8; PackageDescription: 8-Pin Plastic Small Outline, Body 4.9 x 3.9 mm, Pitch 1.27 mm; Supplier 1: Digi-Key; Supplier Part Number 1: LT1920CS8#TRPBF-ND; Supplier 2: Newark; Supplier Part Number 2: 57M7144; Packing: Reel; RoHS: Pb-Free; Type: IA; Mounting Technology: Surface Mount; ComponentLink1Description: Manufacturer URL; ComponentLink1URL: http://www.linear.com/; ComponentLink2Description: Datasheet; ComponentLink2URL: http://cds.linear.com/docs/en/datasheet/1920f.pdf; ComponentLink3Description: Package Specification; ComponentLink3URL: http://cds.linear.com/docs/en/packaging/05081610_G_SO8.pdf
footprint LT-S8-8_N (SOIC, 8-Leads, Body 4.9x3.9mm, Pitch 1.27mm, IPC Medium Density)
footprint LT-S8-8_L (SOIC, 8-Leads, Body 4.9x3.9mm, Pitch 1.27mm, IPC High Density)
footprint LT-S8-8_M (SOIC, 8-Leads, Body 4.9x3.9mm, Pitch 1.27mm, IPC Low Density)
pins: 1 RG, 2 -IN (in), 3 +IN (in), 4 -VS (power), 5 REF (in), 6 OUTPUT (out), 7 +VS (power), 8 RG

## LT1920IN8
designator U?
Single Channel, Resistor Gain Programmable, Precision Instrumentation Operational Amplifier, 0.8 MHz Typical GBW, 1.2 V/us Typical SR, 4.6 to 40 V, 8-Pin DIP (N8-8), Industrial; Linear Technology Part Number: LT1920; Manufacturer: Linear Technology; PartNumber: LT1920IN8; Channels (#): 1; GBW (MHz) Typical: 0.8; Is (mA) Typical: 0.9; SR (V/us) Typical: 1.2; Vos (mV) Guaranteed: 0.125; Vos (mV) Typical: 0.03; Vs Max (V): 40; Vs Min (V): 4.6; PackageVersion: Rev I; PackageReference: LT-N8-8; PackageDescription: 8-Lead PDIP, Body 10.16 x 6.48 mm, Pitch 2.54 mm; Supplier 1: Digi-Key; Supplier Part Number 1: LT1920IN8-ND; Type: IA; Mounting Technology: Surface Mount; ComponentLink1Description: Manufacturer URL; ComponentLink1URL: http://www.linear.com/; ComponentLink2Description: Datasheet; ComponentLink2URL: http://cds.linear.com/docs/en/datasheet/1920f.pdf; ComponentLink3Description: Package Specification; ComponentLink3URL: http://cds.linear.com/docs/en/packaging/05081510_I_N8.pdf
footprint LT-N8-8 (DIP, 8-Leads, Body 10.16x6.48mm, Pitch 2.54mm)
pins: 1 RG, 2 -IN (in), 3 +IN (in), 4 -VS (power), 5 REF (in), 6 OUTPUT (out), 7 +VS (power), 8 RG

## LT1920IN8#PBF
designator U?
Single Channel, Resistor Gain Programmable, Precision Instrumentation Operational Amplifier, 0.8 MHz Typical GBW, 1.2 V/us Typical SR, 4.6 to 40 V, 8-Pin DIP (N8-8), Industrial, Pb-Free; Linear Technology Part Number: LT1920; Manufacturer: Linear Technology; PartNumber: LT1920IN8#PBF; Channels (#): 1; GBW (MHz) Typical: 0.8; Is (mA) Typical: 0.9; SR (V/us) Typical: 1.2; Vos (mV) Guaranteed: 0.125; Vos (mV) Typical: 0.03; Vs Max (V): 40; Vs Min (V): 4.6; PackageVersion: Rev I; PackageReference: LT-N8-8; PackageDescription: 8-Lead PDIP, Body 10.16 x 6.48 mm, Pitch 2.54 mm; Supplier 1: Digi-Key; Supplier Part Number 1: LT1920IN8#PBF-ND; RoHS: Pb-Free; Type: IA; Mounting Technology: Through Hole; ComponentLink1Description: Manufacturer URL; ComponentLink1URL: http://www.linear.com/; ComponentLink2Description: Datasheet; ComponentLink2URL: http://cds.linear.com/docs/en/datasheet/1920f.pdf; ComponentLink3Description: Package Specification; ComponentLink3URL: http://cds.linear.com/docs/en/packaging/05081510_I_N8.pdf
footprint LT-N8-8 (DIP, 8-Leads, Body 10.16x6.48mm, Pitch 2.54mm)
pins: 1 RG, 2 -IN (in), 3 +IN (in), 4 -VS (power), 5 REF (in), 6 OUTPUT (out), 7 +VS (power), 8 RG

## LT1920IS8
designator U?
Single Channel, Resistor Gain Programmable, Precision Instrumentation Operational Amplifier, 0.8 MHz Typical GBW, 1.2 V/us Typical SR, 4.6 to 40 V, 8-Pin SOIC (S8-8), Industrial; Linear Technology Part Number: LT1920; Manufacturer: Linear Technology; PartNumber: LT1920IS8; Channels (#): 1; GBW (MHz) Typical: 0.8; Is (mA) Typical: 0.9; SR (V/us) Typical: 1.2; Vos (mV) Guaranteed: 0.125; Vos (mV) Typical: 0.03; Vs Max (V): 40; Vs Min (V): 4.6; PackageVersion: Rev G; PackageReference: LT-S8-8; PackageDescription: 8-Pin Plastic Small Outline, Body 4.9 x 3.9 mm, Pitch 1.27 mm; Supplier 1: Digi-Key; Supplier Part Number 1: LT1920IS8-ND; Type: IA; Mounting Technology: Surface Mount; ComponentLink1Description: Manufacturer URL; ComponentLink1URL: http://www.linear.com/; ComponentLink2Description: Datasheet; ComponentLink2URL: http://cds.linear.com/docs/en/datasheet/1920f.pdf; ComponentLink3Description: Package Specification; ComponentLink3URL: http://cds.linear.com/docs/en/packaging/05081610_G_SO8.pdf
footprint LT-S8-8_N (SOIC, 8-Leads, Body 4.9x3.9mm, Pitch 1.27mm, IPC Medium Density)
footprint LT-S8-8_L (SOIC, 8-Leads, Body 4.9x3.9mm, Pitch 1.27mm, IPC High Density)
footprint LT-S8-8_M (SOIC, 8-Leads, Body 4.9x3.9mm, Pitch 1.27mm, IPC Low Density)
pins: 1 RG, 2 -IN (in), 3 +IN (in), 4 -VS (power), 5 REF (in), 6 OUTPUT (out), 7 +VS (power), 8 RG

## LT1920IS8#PBF
designator U?
Single Channel, Resistor Gain Programmable, Precision Instrumentation Operational Amplifier, 0.8 MHz Typical GBW, 1.2 V/us Typical SR, 4.6 to 40 V, 8-Pin SOIC (S8-8), Industrial, Pb-Free; Linear Technology Part Number: LT1920; Manufacturer: Linear Technology; PartNumber: LT1920IS8#PBF; Channels (#): 1; GBW (MHz) Typical: 0.8; Is (mA) Typical: 0.9; SR (V/us) Typical: 1.2; Vos (mV) Guaranteed: 0.125; Vos (mV) Typical: 0.03; Vs Max (V): 40; Vs Min (V): 4.6; PackageVersion: Rev G; PackageReference: LT-S8-8; PackageDescription: 8-Pin Plastic Small Outline, Body 4.9 x 3.9 mm, Pitch 1.27 mm; Supplier 1: Digi-Key; Supplier Part Number 1: LT1920IS8#PBF-ND; Supplier 2: Farnell; Supplier Part Number 2: 2294665; Supplier 3: Newark; Supplier Part Number 3: 57M7148; RoHS: Pb-Free; Type: IA; Mounting Technology: Surface Mount; ComponentLink1Description: Manufacturer URL; ComponentLink1URL: http://www.linear.com/; ComponentLink2Description: Datasheet; ComponentLink2URL: http://cds.linear.com/docs/en/datasheet/1920f.pdf; ComponentLink3Description: Package Specification; ComponentLink3URL: http://cds.linear.com/docs/en/packaging/05081610_G_SO8.pdf
footprint LT-S8-8_N (SOIC, 8-Leads, Body 4.9x3.9mm, Pitch 1.27mm, IPC Medium Density)
footprint LT-S8-8_L (SOIC, 8-Leads, Body 4.9x3.9mm, Pitch 1.27mm, IPC High Density)
footprint LT-S8-8_M (SOIC, 8-Leads, Body 4.9x3.9mm, Pitch 1.27mm, IPC Low Density)
pins: 1 RG, 2 -IN (in), 3 +IN (in), 4 -VS (power), 5 REF (in), 6 OUTPUT (out), 7 +VS (power), 8 RG

## LT1920IS8#TR
designator U?
Single Channel, Resistor Gain Programmable, Precision Instrumentation Operational Amplifier, 0.8 MHz Typical GBW, 1.2 V/us Typical SR, 4.6 to 40 V, 8-Pin SOIC (S8-8), Industrial, Reel; Linear Technology Part Number: LT1920; Manufacturer: Linear Technology; PartNumber: LT1920IS8#TR; Channels (#): 1; GBW (MHz) Typical: 0.8; Is (mA) Typical: 0.9; SR (V/us) Typical: 1.2; Vos (mV) Guaranteed: 0.125; Vos (mV) Typical: 0.03; Vs Max (V): 40; Vs Min (V): 4.6; PackageVersion: Rev G; PackageReference: LT-S8-8; PackageDescription: 8-Pin Plastic Small Outline, Body 4.9 x 3.9 mm, Pitch 1.27 mm; Supplier 1: Digi-Key; Supplier Part Number 1: LT1920IS8#TR-ND; Packing: Reel; Type: IA; Mounting Technology: Surface Mount; ComponentLink1Description: Manufacturer URL; ComponentLink1URL: http://www.linear.com/; ComponentLink2Description: Datasheet; ComponentLink2URL: http://cds.linear.com/docs/en/datasheet/1920f.pdf; ComponentLink3Description: Package Specification; ComponentLink3URL: http://cds.linear.com/docs/en/packaging/05081610_G_SO8.pdf
footprint LT-S8-8_N (SOIC, 8-Leads, Body 4.9x3.9mm, Pitch 1.27mm, IPC Medium Density)
footprint LT-S8-8_L (SOIC, 8-Leads, Body 4.9x3.9mm, Pitch 1.27mm, IPC High Density)
footprint LT-S8-8_M (SOIC, 8-Leads, Body 4.9x3.9mm, Pitch 1.27mm, IPC Low Density)
pins: 1 RG, 2 -IN (in), 3 +IN (in), 4 -VS (power), 5 REF (in), 6 OUTPUT (out), 7 +VS (power), 8 RG

## LT1920IS8#TRPBF
designator U?
Single Channel, Resistor Gain Programmable, Precision Instrumentation Operational Amplifier, 0.8 MHz Typical GBW, 1.2 V/us Typical SR, 4.6 to 40 V, 8-Pin SOIC (S8-8), Industrial, Pb-Free, Reel; Linear Technology Part Number: LT1920; Manufacturer: Linear Technology; PartNumber: LT1920IS8#TRPBF; Channels (#): 1; GBW (MHz) Typical: 0.8; Is (mA) Typical: 0.9; SR (V/us) Typical: 1.2; Vos (mV) Guaranteed: 0.125; Vos (mV) Typical: 0.03; Vs Max (V): 40; Vs Min (V): 4.6; PackageVersion: Rev G; PackageReference: LT-S8-8; PackageDescription: 8-Pin Plastic Small Outline, Body 4.9 x 3.9 mm, Pitch 1.27 mm; Supplier 1: Digi-Key; Supplier Part Number 1: LT1920IS8#TRPBF-ND; Packing: Reel; RoHS: Pb-Free; Type: IA; Mounting Technology: Surface Mount; ComponentLink1Description: Manufacturer URL; ComponentLink1URL: http://www.linear.com/; ComponentLink2Description: Datasheet; ComponentLink2URL: http://cds.linear.com/docs/en/datasheet/1920f.pdf; ComponentLink3Description: Package Specification; ComponentLink3URL: http://cds.linear.com/docs/en/packaging/05081610_G_SO8.pdf
footprint LT-S8-8_N (SOIC, 8-Leads, Body 4.9x3.9mm, Pitch 1.27mm, IPC Medium Density)
footprint LT-S8-8_L (SOIC, 8-Leads, Body 4.9x3.9mm, Pitch 1.27mm, IPC High Density)
footprint LT-S8-8_M (SOIC, 8-Leads, Body 4.9x3.9mm, Pitch 1.27mm, IPC Low Density)
pins: 1 RG, 2 -IN (in), 3 +IN (in), 4 -VS (power), 5 REF (in), 6 OUTPUT (out), 7 +VS (power), 8 RG

## LT1969CMS
designator U?
Dual Channel, High Output Current, Operational Amplifier, 700 MHz Typical GBW, 200 V/us Typical SR, 4 to 13.2 V, 10- Pin SOP (MS-10), Commerical; Linear Technology Part Number: LT1969; Manufacturer: Linear Technology; PartNumber: LT1969CMS; Channels (#): 2; GBW (MHz) Typical: 700; Is (mA) Typical: 7; SR (V/us) Typical: 200; Vos (mV) Guaranteed: 4; Vos (mV) Typical: 1; Vs Max (V): 13.2; PackageVersion: Rev E; PackageReference: LT-MS-10; PackageDescription: 10-Lead Plastic MSOP, Body 3 x 3 mm, Pitch 0.5 mm; Supplier 1: Digi-Key; Supplier Part Number 1: LT1969CMS-ND; Type: VFB; Vs Min (V): 4; Mounting Technology: Surface Mount; ComponentLink1Description: Manufacturer URL; ComponentLink1URL: http://www.linear.com/; ComponentLink2Description: Datasheet; ComponentLink2URL: http://cds.linear.com/docs/en/datasheet/1969f.pdf; ComponentLink3Description: Package Specification; ComponentLink3URL: http://cds.linear.com/docs/en/packaging/MSOP_10_05-08-1661.pdf
footprint LT-MS-10_N (SOP, 10-Leads, Body 3x3mm, Pitch 0.50mm, IPC Medium Density)
footprint LT-MS-10_L (SOP, 10-Leads, Body 3x3mm, Pitch 0.50mm, IPC High Density)
footprint LT-MS-10_M (SOP, 10-Leads, Body 3x3mm, Pitch 0.50mm, IPC Low Density)
pins on every part: 1 V+ (power), 5 V- (power)
part A pins: 2 OUTA (out), 3 -INA (in), 4 +INA (in), 6 CTRL1 (in)
part B pins: 7 CTRL2 (in), 8 +INB (in), 9 -INB (in), 10 OUTB (out)

## LT1969CMS#PBF
designator U?
Dual Channel, High Output Current, Operational Amplifier, 700 MHz Typical GBW, 200 V/us Typical SR, 4 to 13.2 V, 10- Pin SOP (MS-10), Commerical, Pb-Free; Linear Technology Part Number: LT1969; Manufacturer: Linear Technology; PartNumber: LT1969CMS#PBF; Channels (#): 2; GBW (MHz) Typical: 700; Is (mA) Typical: 7; SR (V/us) Typical: 200; Vos (mV) Guaranteed: 4; Vos (mV) Typical: 1; Vs Max (V): 13.2; PackageVersion: Rev E; PackageReference: LT-MS-10; PackageDescription: 10-Lead Plastic MSOP, Body 3 x 3 mm, Pitch 0.5 mm; Supplier 1: Digi-Key; Supplier Part Number 1: LT1969CMS#PBF-ND; Supplier 2: Newark; Supplier Part Number 2: 57M7607; RoHS: Pb-Free; Type: VFB; Vs Min (V): 4; Mounting Technology: Surface Mount; ComponentLink1Description: Manufacturer URL; ComponentLink1URL: http://www.linear.com/; ComponentLink2Description: Datasheet; ComponentLink2URL: http://cds.linear.com/docs/en/datasheet/1969f.pdf; ComponentLink3Description: Package Specification; ComponentLink3URL: http://cds.linear.com/docs/en/packaging/MSOP_10_05-08-1661.pdf
footprint LT-MS-10_N (SOP, 10-Leads, Body 3x3mm, Pitch 0.50mm, IPC Medium Density)
footprint LT-MS-10_L (SOP, 10-Leads, Body 3x3mm, Pitch 0.50mm, IPC High Density)
footprint LT-MS-10_M (SOP, 10-Leads, Body 3x3mm, Pitch 0.50mm, IPC Low Density)
pins on every part: 1 V+ (power), 5 V- (power)
part A pins: 2 OUTA (out), 3 -INA (in), 4 +INA (in), 6 CTRL1 (in)
part B pins: 7 CTRL2 (in), 8 +INB (in), 9 -INB (in), 10 OUTB (out)

## LT1969CMS#TR
designator U?
Dual Channel, High Output Current, Operational Amplifier, 700 MHz Typical GBW, 200 V/us Typical SR, 4 to 13.2 V, 10- Pin SOP (MS-10), Commerical, Reel; Linear Technology Part Number: LT1969; Manufacturer: Linear Technology; PartNumber: LT1969CMS#TR; Channels (#): 2; GBW (MHz) Typical: 700; Is (mA) Typical: 7; SR (V/us) Typical: 200; Vos (mV) Guaranteed: 4; Vos (mV) Typical: 1; Vs Max (V): 13.2; PackageVersion: Rev E; PackageReference: LT-MS-10; PackageDescription: 10-Lead Plastic MSOP, Body 3 x 3 mm, Pitch 0.5 mm; Supplier 1: Digi-Key; Supplier Part Number 1: LT1969CMSTR-ND; Packing: Reel; Type: VFB; Vs Min (V): 4; Mounting Technology: Surface Mount; ComponentLink1Description: Manufacturer URL; ComponentLink1URL: http://www.linear.com/; ComponentLink2Description: Datasheet; ComponentLink2URL: http://cds.linear.com/docs/en/datasheet/1969f.pdf; ComponentLink3Description: Package Specification; ComponentLink3URL: http://cds.linear.com/docs/en/packaging/MSOP_10_05-08-1661.pdf
footprint LT-MS-10_N (SOP, 10-Leads, Body 3x3mm, Pitch 0.50mm, IPC Medium Density)
footprint LT-MS-10_L (SOP, 10-Leads, Body 3x3mm, Pitch 0.50mm, IPC High Density)
footprint LT-MS-10_M (SOP, 10-Leads, Body 3x3mm, Pitch 0.50mm, IPC Low Density)
pins on every part: 1 V+ (power), 5 V- (power)
part A pins: 2 OUTA (out), 3 -INA (in), 4 +INA (in), 6 CTRL1 (in)
part B pins: 7 CTRL2 (in), 8 +INB (in), 9 -INB (in), 10 OUTB (out)

## LT1969CMS#TRPBF
designator U?
Dual Channel, High Output Current, Operational Amplifier, 700 MHz Typical GBW, 200 V/us Typical SR, 4 to 13.2 V, 10- Pin SOP (MS-10), Commerical, Pb-Free, Reel; Linear Technology Part Number: LT1969; Manufacturer: Linear Technology; PartNumber: LT1969CMS#TRPBF; Channels (#): 2; GBW (MHz) Typical: 700; Is (mA) Typical: 7; SR (V/us) Typical: 200; Vos (mV) Guaranteed: 4; Vos (mV) Typical: 1; Vs Max (V): 13.2; PackageVersion: Rev E; PackageReference: LT-MS-10; PackageDescription: 10-Lead Plastic MSOP, Body 3 x 3 mm, Pitch 0.5 mm; Supplier 1: Digi-Key; Supplier Part Number 1: LT1969CMS#TRPBF-ND; Packing: Reel; RoHS: Pb-Free; Type: VFB; Vs Min (V): 4; Mounting Technology: Surface Mount; ComponentLink1Description: Manufacturer URL; ComponentLink1URL: http://www.linear.com/; ComponentLink2Description: Datasheet; ComponentLink2URL: http://cds.linear.com/docs/en/datasheet/1969f.pdf; ComponentLink3Description: Package Specification; ComponentLink3URL: http://cds.linear.com/docs/en/packaging/MSOP_10_05-08-1661.pdf
footprint LT-MS-10_N (SOP, 10-Leads, Body 3x3mm, Pitch 0.50mm, IPC Medium Density)
footprint LT-MS-10_L (SOP, 10-Leads, Body 3x3mm, Pitch 0.50mm, IPC High Density)
footprint LT-MS-10_M (SOP, 10-Leads, Body 3x3mm, Pitch 0.50mm, IPC Low Density)
pins on every part: 1 V+ (power), 5 V- (power)
part A pins: 2 OUTA (out), 3 -INA (in), 4 +INA (in), 6 CTRL1 (in)
part B pins: 7 CTRL2 (in), 8 +INB (in), 9 -INB (in), 10 OUTB (out)

## LT1970ACFE#PBF
designator U?
Single Channel, 500 mA Power Op Amp with Adjustable Precision Current Limit, 3.6 MHz Typical GBW, 1.6 V/us Typical SR, 5 to 36 V, 20-Pin SOP (FE-20), Commercial, Pb-Free; Linear Technology Part Number: LT1970A; Manufacturer: Linear Technology; PartNumber: LT1970ACFE#PBF; Channels (#): 1; GBW (MHz) Typical: 3.6; Is (mA) Typical: 7; SR (V/us) Typical: 1.6; Vos (mV) Guaranteed: 0.6; Vos (mV) Typical: 0.2; Vs Max (V): 36; Vs Min (V): 5; DatasheetVersion: Rev. A; PackageVersion: Rev I; PackageReference: LT-FE-20-EPV-CA; PackageDescription: 20-Lead Plastic TSSOP, Body 6.50 x 4.40 mm, Pitch 0.65 mm; Supplier 1: Digi-Key; Supplier Part Number 1: LT1970ACFE#PBF-ND; Supplier 2: Farnell; Supplier Part Number 2: 2126939; Supplier 3: Newark; Supplier Part Number 3: 78T3775; RoHS: Pb-Free; Type: VFB; Mounting Technology: Surface Mount; ComponentLink1Description: Manufacturer URL; ComponentLink1URL: http://www.linear.com/; ComponentLink2Description: Datasheet; ComponentLink2URL: http://www.linear.com/docs/en/datasheet/1970afa.pdf; ComponentLink3Description: Package Specification; ComponentLink3URL: http://cds.linear.com/docs/en/packaging/05081663_I_FE20%28CA%29.pdf
footprint LT-FE-20-EPV-CA_N (SOP, 20-Leads, Body 6.5x4.4mm, Pitch 0.65mm, Thermal Pad 4.95 x 2.74mm, IPC Medium Density)
footprint LT-FE-20-EPV-CA_L (SOP, 20-Leads, Body 6.5x4.4mm, Pitch 0.65mm, Thermal Pad 4.95 x 2.74mm, IPC High Density)
footprint LT-FE-20-EPV-CA_M (SOP, 20-Leads, Body 6.5x4.4mm, Pitch 0.65mm, Thermal Pad 4.95 x2.74mm, IPC Low Density)
pins: 1 VEE (power) "Minus Supply Voltage. VEE connects to the substrate of the integrated circuit die, and therefore must always be the most negative voltage applied to the part. Decouple VEE to ground with a low ESR capacitor. VEE may be a (See Datasheet)", 2 V- (power) "Output Stage Negative Supply. V- may equal VEE or may be smaller in magnitude. Only output stage current flows out of V-, all other current flows out of VEE.V- may be used to drive the base/gate of an external power device (See Datasheet)", 3 OUT (hiz) "Amplifier Output. The OUT pin provides the force function as part of a Kelvin sensed load connection.OUT is normally connected directly to an external load current sense resistor and the SENSE+ pin. Amplifier feedback is (See Datasheet)", 4 SENSE+ (in) "Positive Current Sense Pin. This lead is normally connected to the driven end of the external sense resistor. Sourcing current limit operation is activated when the voltage VSENSE (VSENSE+ - VSENSE-) equals 1/10 of the (See Datasheet)", 5 FILTER (in) "Current Sense Filter Pin. This pin is normally not used and should be left open or shorted to the SENSE- pin. The FILTER pin can be used to adapt the response time of the current sense amplifiers with a 1nF to 100nF (See Datasheet)", 6 SENSE- (in) "Negative Current Sense Pin. This pin is normally connected to the load end of the external sense resistor. Sourcing current limit operation is activated when the voltage VSENSE (VSENSE+ - VSENSE-) equals 1/10 of the (See Datasheet)", 7 VCC (power) "Positive Supply Voltage. All circuitry except the output transistors draw power from VCC. Total supply voltage from VCC to VEE must be between 3.5V and 36V. VCC must always be greater than or equal to V+. VCC should always (See Datasheet)", 8 -IN (in) "Inverting Input of Amplifier. -IN may be any voltage from VEE - 0.3V to VEE + 36V. -IN and +IN remain high impedance at all times to prevent current flow into the inputs when current limit mode is active. Care must be taken (See Datasheet)", 9 +IN (in) "Noninverting Input of Amplifier. +IN may be any voltage from VEE - 0.3V to VEE + 36V. -IN and +IN remain high impedance at all times to prevent current flow into the inputs when current limit mode is active. Care must be (See Datasheet)", 10 VEE (power) "Minus Supply Voltage. VEE connects to the substrate of the integrated circuit die, and therefore must always be the most negative voltage applied to the part. Decouple VEE to ground with a low ESR capacitor. VEE may be a (See Datasheet)", 11 VEE (power) "Minus Supply Voltage. VEE connects to the substrate of the integrated circuit die, and therefore must always be the most negative voltage applied to the part. Decouple VEE to ground with a low ESR capacitor. VEE may be a (See Datasheet)", 12 VCSNK (in) "Sink Current Limit Control Voltage Input.The current sink limit amplifier will activate when the sense voltage between SENSE+ and SENSE- equals -1.0  VVCSNK/10. VCSNK may be set between VCOMMON and VCOMMON + 6V. The transfer (See Datasheet)", 13 VCSRC (in) "Source Current Limit Control Voltage Input. The current source limit amplifier will activate when the sense voltage between SENSE+ and SENSE- equals-1.0 VVCSRC/10. VCSRC may be set between VCOMMON and VCOMMON + 6V. The (See Datasheet)", 14 COMMON (power) "Control and ENABLE inputs and flag outputs are referenced to the COMMON pin. COMMON may be at any potential between VEE and VCC - 3V. In typical applications, COMMON is connected to ground.", 15 ENABLE (in) "ENABLE Digital Input Control. When taken low this TTL-level digital input turns off the amplifier output and drops supply current to less than 1mA. Use the ENABLE pin to force zero output current. Setting VCSNK = VCSRC = 0V (See Datasheet)", 16 ~{ISRC} (oc) "Sourcing Current Limit Digital Output Flag. I\S\R\C\ is an open-collector digital output. I\S\R\C\ pulls low whenever the sourcing current limit amplifier assumes control of the output. This pin can sink up to 10mA of (See Datasheet)", 17 ~{ISNK} (oc) "Sinking Current Limit Digital Output Flag. ISNK is an open-collector digital output. ISNK pulls low whenever the sinking current limit amplifier assumes control of the output. This pin can sink up to 10mA of current. The (See Datasheet)", 18 ~{TSD} (oc) "Thermal Shutdown Digital Output Flag. T\S\D\ is an open-collector digital output. T\S\D\ pulls low whenever the internal thermal shutdown circuit activates, typically at a die temperature of 160degreesC. This pin can sink up (See Datasheet)", 19 V+ (power) "Output Stage Positive Supply. V+ may equal VCC or may be smaller in magnitude. Only output stage current flows through V+, all other current flows into VCC.V+ may be used to drive the base/gate of an external power device to (See Datasheet)", 20 VEE (power) "Minus Supply Voltage. VEE connects to the substrate of the integrated circuit die, and therefore must always be the most negative voltage applied to the part. Decouple VEE to ground with a low ESR capacitor. VEE may be a (See Datasheet)", 21 EP (power) "The exposed backside of the package is electrically connected to the VEE pins on the IC die. The package base should be soldered to a heat spreading pad on the PC board that is electrically connected to VEE."